# Altium schematic symbol library WSLT2010R1000FEA18.SchLib: 1 symbol
Pins are listed as number, name and electrical type; pins without a type are passive.

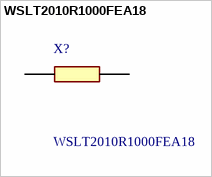
[diagram p0: symbol WSLT2010R1000FEA18]

## WSLT2010R1000FEA18
designator X?
Current Sense Resistors - SMD 1watt .1ohms 1%; Manufacturer_Name: Vishay; Geometry.Height: 0.889mm; Mouser Part Number: 71-WSLT2010R1000FEA1; Mouser Price/Stock: https://www.mouser.co.uk/ProductDetail/Vishay-Dale/WSLT2010R1000FEA18?qs=g9ZB6v9yyDrIJygNjdpZKg%3D%3D; Manufacturer_Part_Number: WSLT2010R1000FEA18; Datasheet Link: https://componentsearchengine.com/Datasheets/2/WSLT2010R1000FEA18.pdf
footprint RESC5125X89N
pins: 1, 2